# EAGLE library part CPL-CON-JST-2.0MM-8P-M-SMT-RA (library TinWhiskers)
Connector: 2.0mm Pitch, 8-POS, Pin, Shrouded; Package: HR-Series (SMT, R/A); Datasheet: http://www.jst-mfg.com/product/pdf/eng/ePH.pdf
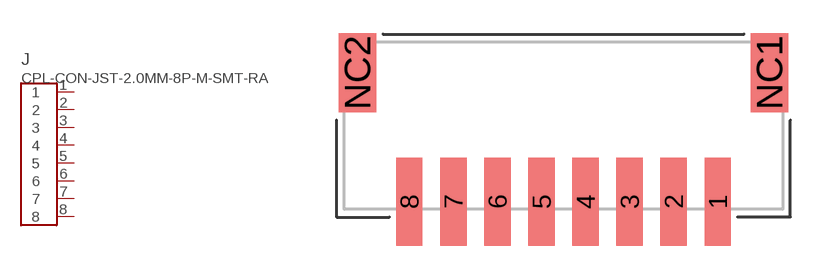
[diagram p20: symbol with the pads of CON-JST-PH-2.0MM-8P-SMT-RA; footprint CON-JST-PH-2.0MM-8P-SMT-RA]

Designator prefix J

## CPL-CON-JST-2.0MM-8P-M-SMT-RA  [CON-JST-PH-2.0MM-8P-SMT-RA]
1  1  pas
2  2  pas
3  3  pas
4  4  pas
5  5  pas
6  6  pas
7  7  pas
8  8  pas

## Footprint CON-JST-PH-2.0MM-8P-SMT-RA (pad centres in mm)
Connector: 2.0mm Pitch, 8-POS, Pin, Shrouded; Package: HR-Series (SMT, R/A); Datasheet: http://www.jst-mfg.com/product/pdf/eng/ePH.pdf
smd 1.2 x 4: 1 7,0; 2 5,0; 3 3,0; 4 1,0; 5 -1,0; 6 -3,0; 7 -5,0; 8 -7,0
smd 1.7 x 3.6: NC1 9.35,5.85; NC2 -9.35,5.85